# Altium footprint library 8mm CAN.PcbLib: 1 footprints
Each footprint in its own frame and in the unit in brackets; x right, y up, seen from the top. Pads: shape width x height; smd on the part's side, far side on the other; paste and mask are expansions set on the pad; w line width, h text height; cw(c..) or ccw(c..) is an arc to the next point about the centre after c.
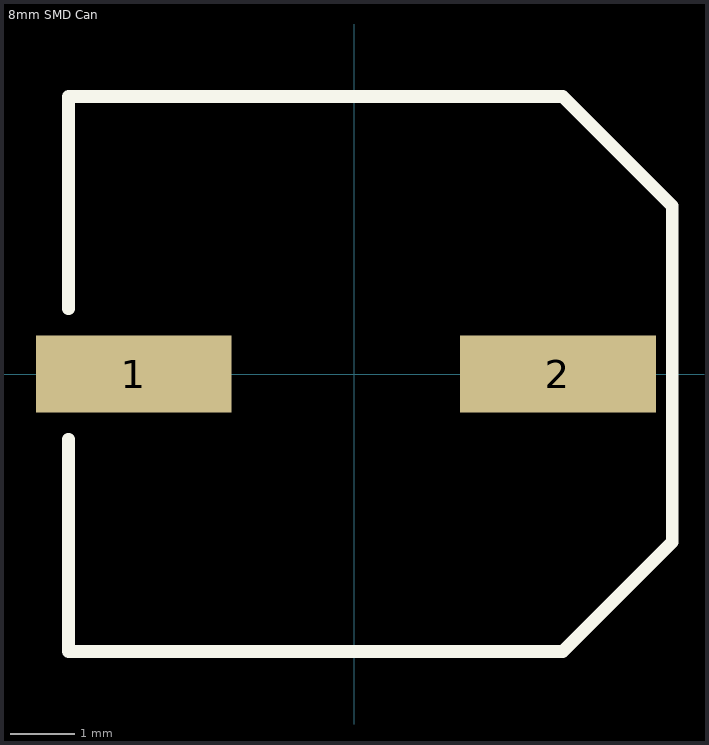
[diagram p0: the footprint, top view; thin cyan lines are the x and y axes]

## 8mm SMD Can [mil]
pads (2):
  rect 120x47.24 smd: 1(-135,0) 2(125,0)
Top Overlay:
  lines w7.87: -175,-40 -175,-170 127.9,-170 195,-102.9 195,102.9 127.9,170 -175,170 -175,40
3D body: height 401.57, standoff 0, extent -156.24,-157.17 157.48,157.17